# Altium schematic symbol library passive_chip_res.SchLib: 5 symbols
Pins are listed as number, name and electrical type; pins without a type are passive.

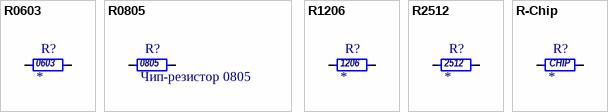
[diagram p0: symbols R0603 to R-Chip]

## R0603
designator R?
R0603; Name: Чип-резистор 0603; RevisionDate: 11-01-2018; Package: *; Value: *
footprint RES0603 (Chip Resistor, 2-Leads, Body 1,75x0,95mm, IPC Medium Density)
pins: 1, 2
text: 0603

## R0805
designator R?  value Чип-резистор 0805
R0805; RevisionDate: 11-01-2018; Name: *; Package: *
footprint RES0805 (Chip Resistor, 2-Leads, Body 2,00x1,25mm, IPC Medium Density)
pins: 1, 2
text: 0805

## R1206
designator R?
R1206; Name: Чип-резистор 1206; RevisionDate: 11-01-2018; Package: *; Value: *
footprint RES1206 (Chip Resistor, 2-Leads, Body 3,13x1,55mm, IPC Medium Density)
pins: 1, 2
text: 1206

## R2512
designator R?
R2512; Name: Чип-резистор 2512; RevisionDate: 11-01-2018; Package: *; Value: *
footprint RES2512 (Chip Resistor, 2-Leads, Body 6,40x3,20mm, IPC Medium Density)
pins: 1, 2
text: 2512

## R-Chip
designator R?
Resistor chip; Name: Чип-резистор NN; RevisionDate: 11-01-2018; Package: *; Value: *
footprint RES0201 (Chip Resistor, 2-Leads, Body 0,60x0,30mm, IPC Medium Density)
footprint RES0402 (Chip Resistor, 2-Leads, Body 1,00x0,50mm, IPC Medium Density)
footprint RES0603 (Chip Resistor, 2-Leads, Body 1,75x0,95mm, IPC Medium Density)
footprint RES0805 (Chip Resistor, 2-Leads, Body 2,00x1,25mm, IPC Medium Density)
footprint RES0806 (Chip Resistor, 2-Leads, Body 2,00x1,60mm, IPC Medium Density)
footprint RES1008 (Chip Resistor, 2-Leads, Body 2,50x2,00mm, IPC Medium Density)
footprint RES1206 (Chip Resistor, 2-Leads, Body 3,13x1,55mm, IPC Medium Density)
footprint RES1210 (Chip Resistor, 2-Leads, Body 3,20x2,50mm, IPC Medium Density)
footprint RES1812 (Chip Resistor, 2-Leads, Body 4,50x3,20mm, IPC Medium Density)
footprint RES2010 (Chip Resistor, 2-Leads, Body 5,00x2,50mm, IPC Medium Density)
footprint RES2512 (Chip Resistor, 2-Leads, Body 6,40x3,20mm, IPC Medium Density)
pins: 1, 2
text: CHIP